# Altium schematic symbol library Allwinner.SchLib: 2 symbols
Pins are listed as number, name and electrical type; pins without a type are passive.

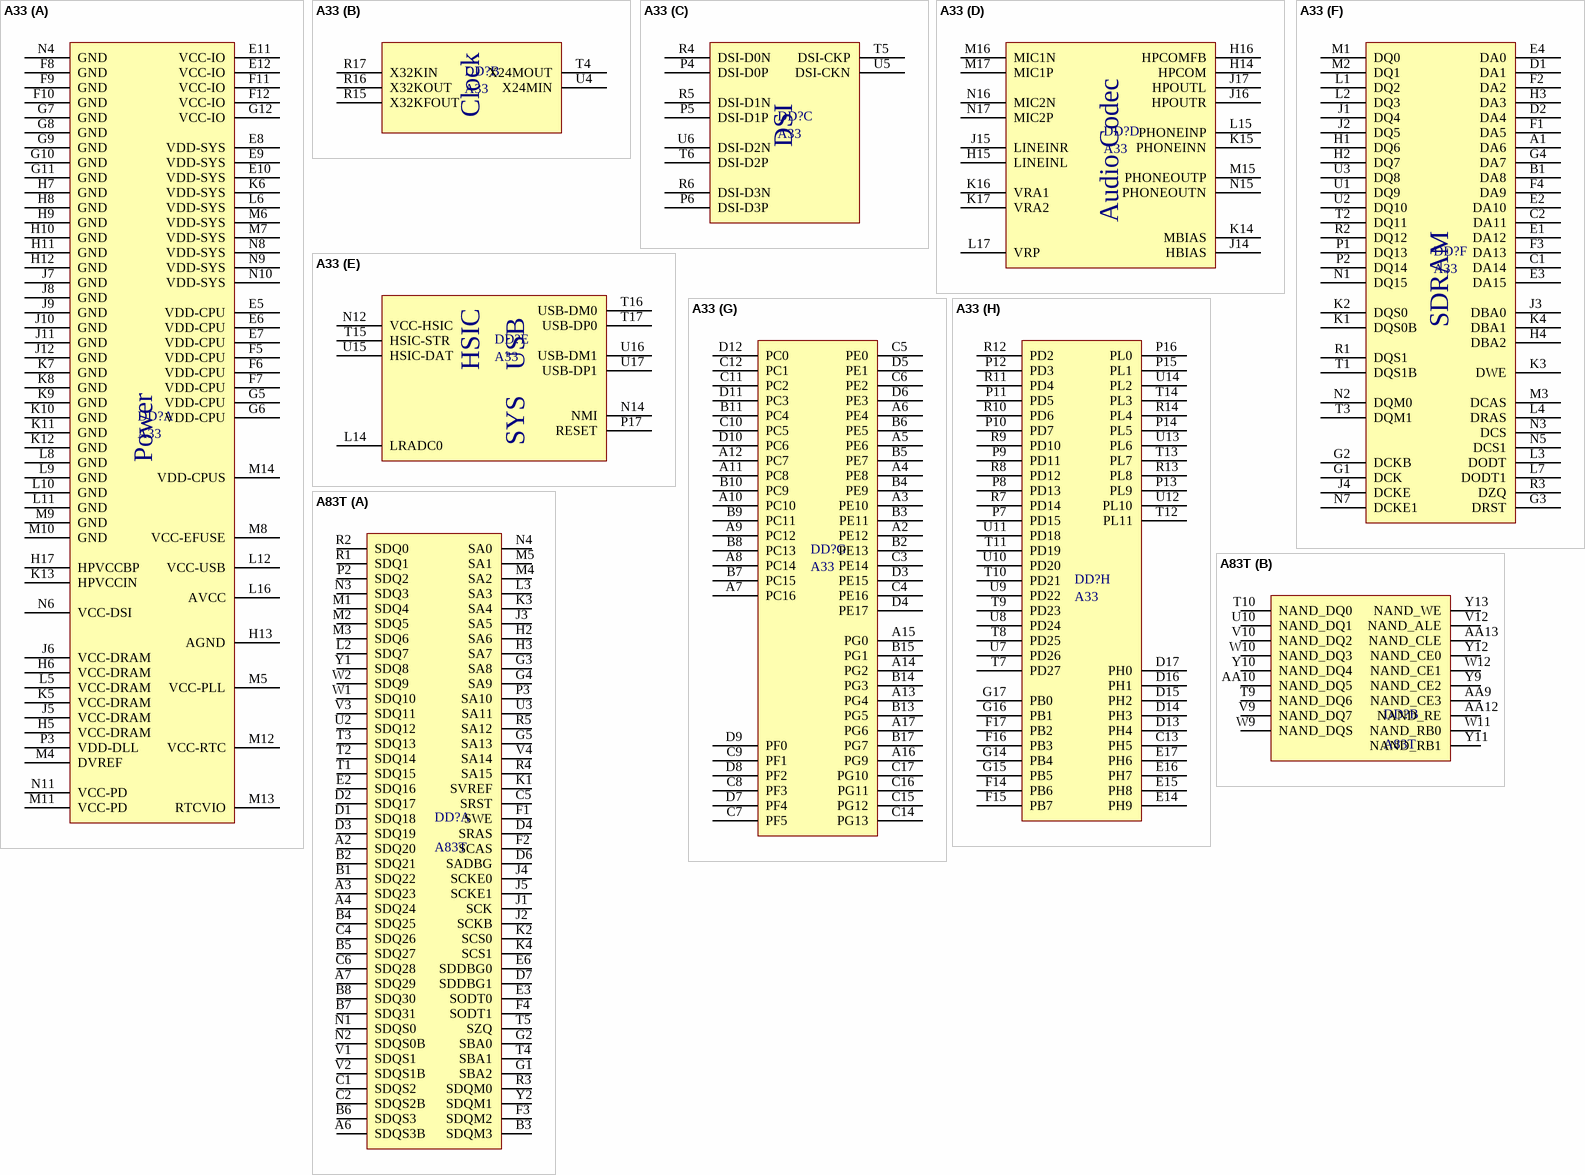
[diagram p0: symbols A33 to A83T]

## A33
designator DD?
Allwinner A33
footprint A33
part A pins: E5 VDD-CPU, E6 VDD-CPU, E7 VDD-CPU, E8 VDD-SYS, E9 VDD-SYS, E10 VDD-SYS, E11 VCC-IO, E12 VCC-IO, F5 VDD-CPU, F6 VDD-CPU, F7 VDD-CPU, F8 GND, F9 GND, F10 GND, F11 VCC-IO, F12 VCC-IO, G5 VDD-CPU, G6 VDD-CPU, G7 GND, G8 GND, G9 GND, G10 GND, G11 GND, G12 VCC-IO, H5 VCC-DRAM, H6 VCC-DRAM, H7 GND, H8 GND, H9 GND, H10 GND, H11 GND, H12 GND, H13 AGND, H17 HPVCCBP, J5 VCC-DRAM, J6 VCC-DRAM, J7 GND, J8 GND, J9 GND, J10 GND, J11 GND, J12 GND, K5 VCC-DRAM, K6 VDD-SYS, K7 GND, K8 GND, K9 GND, K10 GND, K11 GND, K12 GND, K13 HPVCCIN, L5 VCC-DRAM, L6 VDD-SYS, L8 GND, L9 GND, L10 GND, L11 GND, L12 VCC-USB, L16 AVCC, M4 DVREF, M5 VCC-PLL, M6 VDD-SYS, M7 VDD-SYS, M8 VCC-EFUSE, M9 GND, M10 GND, M11 VCC-PD, M12 VCC-RTC, M13 RTCVIO, M14 VDD-CPUS, N4 GND, N6 VCC-DSI, N8 VDD-SYS, N9 VDD-SYS, N10 VDD-SYS, N11 VCC-PD, P3 VDD-DLL
part B pins: R15 X32KFOUT, R16 X32KOUT, R17 X32KIN, T4 X24MOUT, U4 X24MIN
part C pins: P4 DSI-D0P, P5 DSI-D1P, P6 DSI-D3P, R4 DSI-D0N, R5 DSI-D1N, R6 DSI-D3N, T5 DSI-CKP, T6 DSI-D2P, U5 DSI-CKN, U6 DSI-D2N
part D pins: H14 HPCOM, H15 LINEINL, H16 HPCOMFB, J14 HBIAS, J15 LINEINR, J16 HPOUTR, J17 HPOUTL, K14 MBIAS, K15 PHONEINN, K16 VRA1, K17 VRA2, L15 PHONEINP, L17 VRP, M15 PHONEOUTP, M16 MIC1N, M17 MIC1P, N15 PHONEOUTN, N16 MIC2N, N17 MIC2P
part E pins: L14 LRADC0, N12 VCC-HSIC, N14 NMI, P17 RESET, T15 HSIC-STR, T16 USB-DM0, T17 USB-DP0, U15 HSIC-DAT, U16 USB-DM1, U17 USB-DP1
part F pins: A1 DA6, B1 DA8, C1 DA14, C2 DA11, D1 DA1, D2 DA4, E1 DA12, E2 DA10, E3 DA15, E4 DA0, F1 DA5, F2 DA2, F3 DA13, F4 DA9, G1 DCK, G2 DCKB, G3 DRST, G4 DA7, H1 DQ6, H2 DQ7, H3 DA3, H4 DBA2, J1 DQ4, J2 DQ5, J3 DBA0, J4 DCKE, K1 DQS0B, K2 DQS0, K3 DWE, K4 DBA1, L1 DQ2, L2 DQ3, L3 DODT, L4 DRAS, L7 DODT1, M1 DQ0, M2 DQ1, M3 DCAS, N1 DQ15, N2 DQM0, N3 DCS, N5 DCS1, N7 DCKE1, P1 DQ13, P2 DQ14, R1 DQS1, R2 DQ12, R3 DZQ, T1 DQS1B, T2 DQ11, T3 DQM1, U1 DQ9, U2 DQ10, U3 DQ8
part G pins: A2 PE12, A3 PE10, A4 PE8, A5 PE6, A6 PE4, A7 PC16, A8 PC14, A9 PC12, A10 PC10, A11 PC8, A12 PC7, A13 PG4, A14 PG2, A15 PG0, A16 PG9, A17 PG6, B2 PE13, B3 PE11, B4 PE9, B5 PE7, B6 PE5, B7 PC15, B8 PC13, B9 PC11, B10 PC9, B11 PC4, B13 PG5, B14 PG3, B15 PG1, B17 PG7, C3 PE14, C4 PE16, C5 PE0, C6 PE2, C7 PF5, C8 PF3, C9 PF1, C10 PC5, C11 PC2, C12 PC1, C14 PG13, C15 PG12, C16 PG11, C17 PG10, D3 PE15, D4 PE17, D5 PE1, D6 PE3, D7 PF4, D8 PF2, D9 PF0, D10 PC6, D11 PC3, D12 PC0
part H pins: C13 PH5, D13 PH4, D14 PH3, D15 PH2, D16 PH1, D17 PH0, E14 PH9, E15 PH8, E16 PH7, E17 PH6, F14 PB6, F15 PB7, F16 PB3, F17 PB2, G14 PB4, G15 PB5, G16 PB1, G17 PB0, P7 PD15, P8 PD13, P9 PD11, P10 PD7, P11 PD5, P12 PD3, P13 PL9, P14 PL5, P15 PL1, P16 PL0, R7 PD14, R8 PD12, R9 PD10, R10 PD6, R11 PD4, R12 PD2, R13 PL8, R14 PL4, T7 PD27, T8 PD25, T9 PD23, T10 PD21, T11 PD19, T12 PL11, T13 PL7, T14 PL3, U7 PD26, U8 PD24, U9 PD22, U10 PD20, U11 PD18, U12 PL10, U13 PL6, U14 PL2
part A text: Power
part B text: Clock
part C text: DSI
part D text: Audio Codec
part E text: HSIC; USB; SYS
part F text: SDRAM

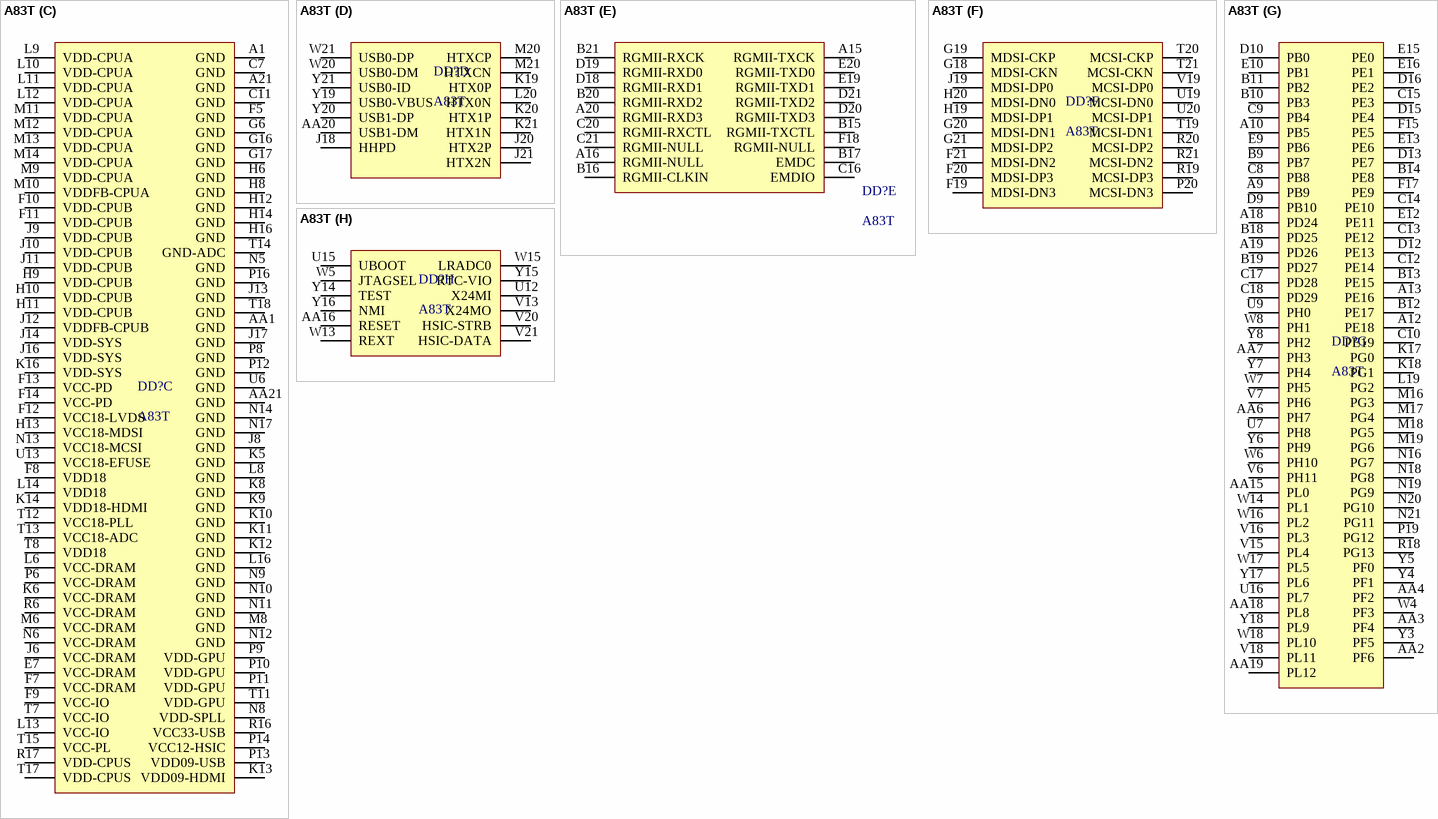
[diagram p1: symbol A83T]

## A83T
designator DD?
footprint A83T
part A pins: A2 SDQ20 (power), A3 SDQ23 (power), A4 SDQ24 (power), A6 SDQS3B (power), A7 SDQ29 (power), B1 SDQ22 (power), B2 SDQ21 (power), B3 SDQM3 (power), B4 SDQ25 (power), B5 SDQ27 (power), B6 SDQS3 (power), B7 SDQ31 (power), B8 SDQ30 (power), C1 SDQS2 (power), C2 SDQS2B (power), C4 SDQ26 (power), C5 SRST (power), C6 SDQ28 (power), D1 SDQ18 (power), D2 SDQ17 (power), D3 SDQ19 (power), D4 SRAS (power), D6 SADBG (power), D7 SDDBG1 (power), E2 SDQ16 (power), E3 SODT0 (power), E6 SDDBG0 (power), F1 SWE (power), F2 SCAS (power), F3 SDQM2 (power), F4 SODT1 (power), G1 SBA2 (power), G2 SBA0 (power), G3 SA8 (power), G4 SA9 (power), G5 SA13 (power), H2 SA6 (power), H3 SA7 (power), J1 SCK (power), J2 SCKB (power), J3 SA5 (power), J4 SCKE0 (power), J5 SCKE1 (power), K1 SVREF (power), K2 SCS0 (power), K3 SA4 (power), K4 SCS1 (power), L2 SDQ7 (power), L3 SA3 (power), M1 SDQ4 (power), M2 SDQ5 (power), M3 SDQ6 (power), M4 SA2 (power), M5 SA1 (power), N1 SDQS0 (power), N2 SDQS0B (power), N3 SDQ3 (power), N4 SA0 (power), P2 SDQ2 (power), P3 SA10 (power), R1 SDQ1 (power), R2 SDQ0 (power), R3 SDQM0 (power), R4 SA15 (power), R5 SA12 (power), T1 SDQ15 (power), T2 SDQ14 (power), T3 SDQ13 (power), T4 SBA1 (power), T5 SZQ (power), U2 SDQ12 (power), U3 SA11 (power), V1 SDQS1 (power), V2 SDQS1B (power), V3 SDQ11 (power), V4 SA14 (power), W1 SDQ10 (power), W2 SDQ9 (power), Y1 SDQ8 (power), Y2 SDQM1 (power)
part B pins: AA9 NAND_CE3 (power), AA10 NAND_DQ5 (power), AA12 NAND_RE (power), AA13 NAND_CLE (power), T9 NAND_DQ6 (power), T10 NAND_DQ0 (power), U10 NAND_DQ1 (power), V9 NAND_DQ7 (power), V10 NAND_DQ2 (power), V12 NAND_ALE (power), W9 NAND_DQS (power), W10 NAND_DQ3 (power), W11 NAND_RB0 (power), W12 NAND_CE1 (power), Y9 NAND_CE2 (power), Y10 NAND_DQ4 (power), Y11 NAND_RB1 (power), Y12 NAND_CE0 (power), Y13 NAND_WE (power)
part C pins: A1 GND (power), A21 GND (power), AA1 GND (power), AA21 GND (power), C7 GND (power), C11 GND (power), E7 VCC-DRAM (power), F5 GND (power), F7 VCC-DRAM (power), F8 VDD18 (power), F9 VCC-IO (power), F10 VDD-CPUB (power), F11 VDD-CPUB (power), F12 VCC18-LVDS (power), F13 VCC-PD (power), F14 VCC-PD (power), G6 GND (power), G16 GND (power), G17 GND (power), H6 GND (power), H8 GND (power), H9 VDD-CPUB (power), H10 VDD-CPUB (power), H11 VDD-CPUB (power), H12 GND (power), H13 VCC18-MDSI (power), H14 GND (power), H16 GND (power), J6 VCC-DRAM (power), J8 GND (power), J9 VDD-CPUB (power), J10 VDD-CPUB (power), J11 VDD-CPUB (power), J12 VDDFB-CPUB (power), J13 GND (power), J14 VDD-SYS (power), J16 VDD-SYS (power), J17 GND (power), K5 GND (power), K6 VCC-DRAM (power), K8 GND (power), K9 GND (power), K10 GND (power), K11 GND (power), K12 GND (power), K13 VDD09-HDMI (power), K14 VDD18-HDMI (power), K16 VDD-SYS (power), L6 VCC-DRAM (power), L8 GND (power), L9 VDD-CPUA (power), L10 VDD-CPUA (power), L11 VDD-CPUA (power), L12 VDD-CPUA (power), L13 VCC-IO (power), L14 VDD18 (power), L16 GND (power), M6 VCC-DRAM (power), M8 GND (power), M9 VDD-CPUA (power), M10 VDDFB-CPUA (power), M11 VDD-CPUA (power), M12 VDD-CPUA (power), M13 VDD-CPUA (power), M14 VDD-CPUA (power), N5 GND (power), N6 VCC-DRAM (power), N8 VDD-SPLL (power), N9 GND (power), N10 GND (power), N11 GND (power), N12 GND (power), N13 VCC18-MCSI (power), N14 GND (power), N17 GND (power), P6 VCC-DRAM (power), P8 GND (power), P9 VDD-GPU (power), P10 VDD-GPU (power), P11 VDD-GPU (power), P12 GND (power), P13 VDD09-USB (power), P14 VCC12-HSIC (power), P16 GND (power), R6 VCC-DRAM (power), R16 VCC33-USB (power), R17 VDD-CPUS (power), T7 VCC-IO (power), T8 VDD18 (power), T11 VDD-GPU (power), T12 VCC18-PLL (power), T13 VCC18-ADC (power), T14 GND-ADC (power), T15 VCC-PL (power), T17 VDD-CPUS (power), T18 GND (power), U6 GND (power), U13 VCC18-EFUSE (power)
part D pins: AA20 USB1-DM (power), J18 HHPD (power), J20 HTX2P (power), J21 HTX2N (power), K19 HTX0P (power), K20 HTX1P (power), K21 HTX1N (power), L20 HTX0N (power), M20 HTXCP (power), M21 HTXCN (power), W20 USB0-DM (power), W21 USB0-DP (power), Y19 USB0-VBUS (power), Y20 USB1-DP (power), Y21 USB0-ID (power)
part E pins: A15 RGMII-TXCK (power), A16 RGMII-NULL (power), A20 RGMII-RXD3 (power), B15 RGMII-TXCTL (power), B16 RGMII-CLKIN (power), B17 EMDC (power), B20 RGMII-RXD2 (power), B21 RGMII-RXCK (power), C16 EMDIO (power), C20 RGMII-RXCTL (power), C21 RGMII-NULL (power), D18 RGMII-RXD1 (power), D19 RGMII-RXD0 (power), D20 RGMII-TXD3 (power), D21 RGMII-TXD2 (power), E19 RGMII-TXD1 (power), E20 RGMII-TXD0 (power), F18 RGMII-NULL (power)
part F pins: F19 MDSI-DN3 (power), F20 MDSI-DP3 (power), F21 MDSI-DN2 (power), G18 MDSI-CKN (power), G19 MDSI-CKP (power), G20 MDSI-DN1 (power), G21 MDSI-DP2 (power), H19 MDSI-DP1 (power), H20 MDSI-DN0 (power), J19 MDSI-DP0 (power), P20 MCSI-DN3 (power), R19 MCSI-DP3 (power), R20 MCSI-DP2 (power), R21 MCSI-DN2 (power), T19 MCSI-DN1 (power), T20 MCSI-CKP (power), T21 MCSI-CKN (power), U19 MCSI-DN0 (power), U20 MCSI-DP1 (power), V19 MCSI-DP0 (power)
part G pins: A9 PB9 (power), A10 PB5 (power), A12 PE18 (power), A13 PE16 (power), A18 PD24 (power), A19 PD26 (power), AA2 PF6 (power), AA3 PF4 (power), AA4 PF2 (power), AA6 PH7 (power), AA7 PH3 (power), AA15 PL0 (power), AA18 PL8 (power), AA19 PL12 (power), B9 PB7 (power), B10 PB3 (power), B11 PB2 (power), B12 PE17 (power), B13 PE15 (power), B14 PE8 (power), B18 PD25 (power), B19 PD27 (power), C8 PB8 (power), C9 PB4 (power), C10 PE19 (power), C12 PE14 (power), C13 PE12 (power), C14 PE10 (power), C15 PE3 (power), C17 PD28 (power), C18 PD29 (power), D9 PB10 (power), D10 PB0 (power), D12 PE13 (power), D13 PE7 (power), D15 PE4 (power), D16 PE2 (power), E9 PB6 (power), E10 PB1 (power), E12 PE11 (power), E13 PE6 (power), E15 PE0 (power), E16 PE1 (power), F15 PE5 (power), F17 PE9 (power), K17 PG0 (power), K18 PG1 (power), L19 PG2 (power), M16 PG3 (power), M17 PG4 (power), M18 PG5 (power), M19 PG6 (power), N16 PG7 (power), N18 PG8 (power), N19 PG9 (power), N20 PG10 (power), N21 PG11 (power), P19 PG12 (power), R18 PG13 (power), U7 PH8 (power), U9 PH0 (power), U16 PL7 (power), V6 PH11 (power), V7 PH6 (power), V15 PL4 (power), V16 PL3 (power), V18 PL11 (power), W4 PF3 (power), W6 PH10 (power), W7 PH5 (power), W8 PH1 (power), W14 PL1 (power), W16 PL2 (power), W17 PL5 (power), W18 PL10 (power), Y3 PF5 (power), Y4 PF1 (power), Y5 PF0 (power), Y6 PH9 (power), Y7 PH4 (power), Y8 PH2 (power), Y17 PL6 (power), Y18 PL9 (power)
part H pins: AA16 RESET (power), U12 X24MI (power), U15 UBOOT (power), V13 X24MO (power), V20 HSIC-STRB (power), V21 HSIC-DATA (power), W5 JTAGSEL (power), W13 REXT (power), W15 LRADC0 (power), Y14 TEST (power), Y15 RTC-VIO (power), Y16 NMI (power)